# EAGLE library part 50246-050 (library con-aces-50246-series)
ACES CONNECTORS 50246 SERIES ACES Connecors 50246 <https://www.acesconn.com/tw/series/50246-xxxxx-xxx/1292>
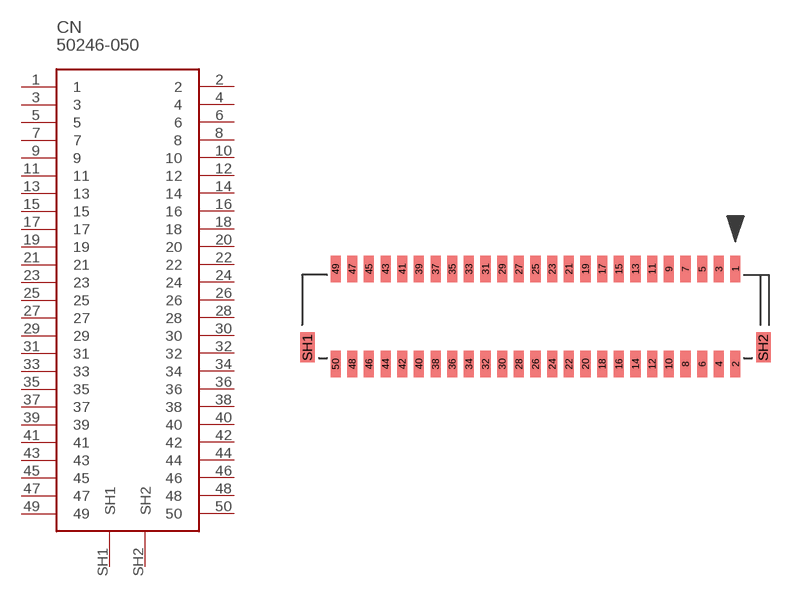
[diagram p10: symbol with the pads of 50246-050; footprint 50246-050]

Designator prefix CN

## 50246-050  [50246-050]
1  1
2  2
3  3
4  4
5  5
6  6
7  7
8  8
9  9
10  10
11  11
12  12
13  13
14  14
15  15
16  16
17  17
18  18
19  19
20  20
21  21
22  22
23  23
24  24
25  25
26  26
27  27
28  28
29  29
30  30
31  31
32  32
33  33
34  34
35  35
36  36
37  37
38  38
39  39
40  40
41  41
42  42
43  43
44  44
45  45
46  46
47  47
48  48
49  49
50  50
SH1  SH1
SH2  SH2

## Footprint 50246-050 (pad centres in mm)
smd 0.6 x 1.6: 1 12,2.85; 2 12,-2.85; 3 11,2.85; 4 11,-2.85; 5 10,2.85; 6 10,-2.85; 7 9,2.85; 8 9,-2.85; 9 8,2.85; 10 8,-2.85; 11 7,2.85; 12 7,-2.85; 13 6,2.85; 14 6,-2.85; 15 5,2.85; 16 5,-2.85; 17 4,2.85; 18 4,-2.85; 19 3,2.85; 20 3,-2.85; 21 2,2.85; 22 2,-2.85; 23 1,2.85; 24 1,-2.85; 25 0,2.85; 26 0,-2.85; 27 -1,2.85; 28 -1,-2.85; 29 -2,2.85; 30 -2,-2.85; 31 -3,2.85; 32 -3,-2.85; 33 -4,2.85; 34 -4,-2.85; 35 -5,2.85; 36 -5,-2.85; 37 -6,2.85; 38 -6,-2.85; 39 -7,2.85; 40 -7,-2.85; 41 -8,2.85; 42 -8,-2.85; 43 -9,2.85; 44 -9,-2.85; 45 -10,2.85; 46 -10,-2.85; 47 -11,2.85; 48 -11,-2.85; 49 -12,2.85; 50 -12,-2.85
smd 0.85 x 1.8: SH1 -13.675,-1.85; SH2 13.675,-1.85